# Altium schematic symbol library SG_SCH_ADC.SchLib: 10 symbols
Pins are listed as number, name and electrical type; pins without a type are passive.

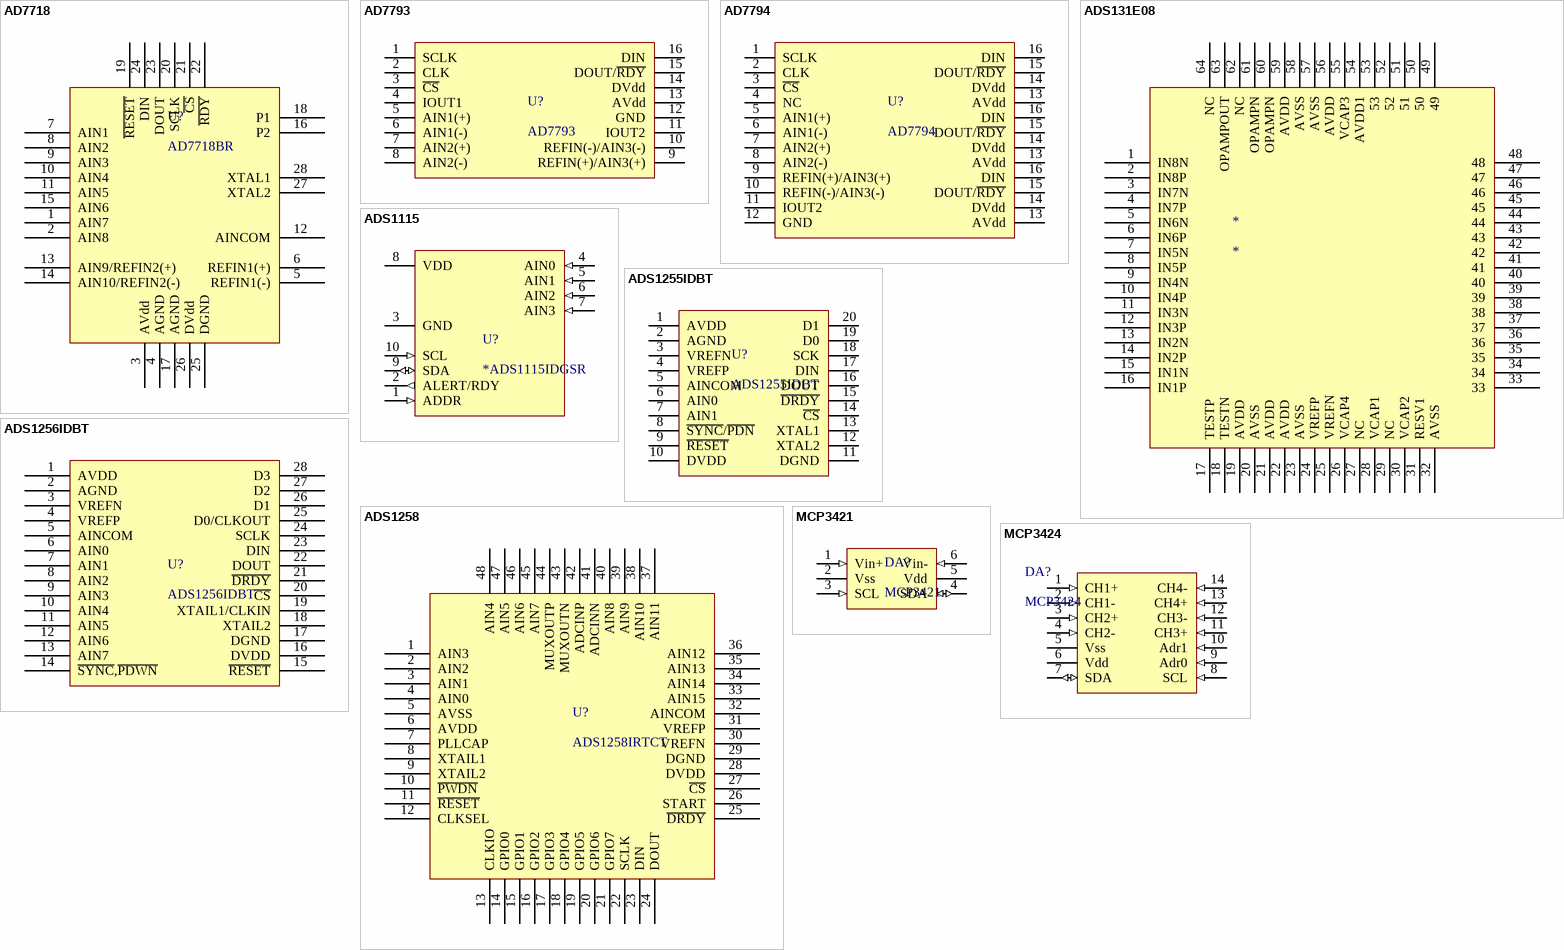
[diagram p0: symbols AD7718 to MCP3424]

## AD7718
designator U?, comment AD7718BR
10 - channel sigma-delta ADC with PGA; OriginalSource: AltTab; Order: *
footprint SO28 (Footprint not found)
pins: 1 AIN7, 2 AIN8, 3 AVdd, 4 AGND, 5 REFIN1(-), 6 REFIN1(+), 7 AIN1, 8 AIN2, 9 AIN3, 10 AIN4, 11 AIN5, 12 AINCOM, 13 AIN9/REFIN2(+), 14 AIN10/REFIN2(-), 15 AIN6, 16 P2, 17 AGND, 18 P1, 19 ~{RESET}, 20 SCLK, 21 ~{CS}, 22 ~{RDY}, 23 DOUT, 24 DIN, 25 DGND, 26 DVdd, 27 XTAL2, 28 XTAL1

## AD7793
designator U?
3-Channel, Low Noise, Low Power, 24-Bit  sigma-delta ADC with On-Chip In-Amp and Reference; OriginalSource: AltTab; Order: *
pins: 1 SCLK, 2 CLK, 3 ~{CS}, 4 IOUT1, 5 AIN1(+), 6 AIN1(-), 7 AIN2(+), 8 AIN2(-), 9 REFIN(+)/AIN3(+), 10 REFIN(-)/AIN3(-), 11 IOUT2, 12 GND, 13 AVdd, 14 DVdd, 15 DOUT/~{RDY}, 16 DIN

## AD7794
designator U?
6-Channel, Low Noise, Low Power, 24-/16-Bit sigma-delta ADC with On-Chip In-Amp and Reference; OriginalSource: AltTab; Order: *
pins: 1 SCLK, 2 CLK, 3 ~{CS}, 4 NC, 5 AIN1(+), 6 AIN1(-), 7 AIN2(+), 8 AIN2(-), 9 REFIN(+)/AIN3(+), 10 REFIN(-)/AIN3(-), 11 IOUT2, 12 GND, 13 AVdd, 13 AVdd, 13 AVdd, 14 DVdd, 14 DVdd, 14 DVdd, 15 DOUT/~{RDY}, 15 DOUT/~{RDY}, 15 DOUT/~{RDY}, 16 DIN, 16 DIN, 16 DIN

## ADS131E08
designator *
OriginalSource: AltTab; Order: *
pins: 1 IN8N, 2 IN8P, 3 IN7N, 4 IN7P, 5 IN6N, 6 IN6P, 7 IN5N, 8 IN5P, 9 IN4N, 10 IN4P, 11 IN3N, 12 IN3P, 13 IN2N, 14 IN2P, 15 IN1N, 16 IN1P, 17 TESTP, 18 TESTN, 19 AVDD, 20 AVSS, 21 AVDD, 22 AVDD, 23 AVSS, 24 VREFP, 25 VREFN, 26 VCAP4, 27 NC, 28 VCAP1, 29 NC, 30 VCAP2, 31 RESV1, 32 AVSS, 33, 34, 35, 36, 37, 38, 39, 40, 41, 42, 43, 44, 45, 46, 47, 48, 49, 50, 51, 52, 53, 54 AVDD1, 55 VCAP3, 56 AVDD, 57 AVSS, 58 AVSS, 59 AVDD, 60 OPAMPN, 61 OPAMPN, 62 NC, 63 OPAMPOUT, 64 NC

## ADS1115
designator U?, comment *ADS1115IDGSR
16-bit, 860-SPS, 4-channel, delta-sigma ADC with PGA, oscillator, VREF, comparator and I2C; Order: *ADS1115IDGSR; DefaultOrder: ADS1115IDGSR
footprint VSSOP-10 (Footprint not found)
pins: 1 ADDR (in), 2 ALERT/RDY (out), 3 GND (power), 4 AIN0 (in), 5 AIN1 (in), 6 AIN2 (in), 7 AIN3 (in), 8 VDD (power), 9 SDA (io), 10 SCL (in)

## ADS1255IDBT
designator U?
24-bit sigma-delta ADC; OriginalSource: AltTab; Order: *
pins: 1 AVDD, 2 AGND, 3 VREFN, 4 VREFP, 5 AINCOM, 6 AIN0, 7 AIN1, 8 ~{SYNC}/~{PDN}, 9 ~{RESET}, 10 DVDD, 11 DGND, 12 XTAL2, 13 XTAL1, 14 ~{CS}, 15 ~{DRDY}, 16 DOUT, 17 DIN, 18 SCK, 19 D0, 20 D1

## ADS1256IDBT
designator U?
OriginalSource: AltTab; Order: *
footprint SSOP28 (SOP, 28-Leads, Body 9,9x5,3mm (max), Pitch 0,65mm, IPC Medium Density)
pins: 1 AVDD, 2 AGND, 3 VREFN, 4 VREFP, 5 AINCOM, 6 AIN0, 7 AIN1, 8 AIN2, 9 AIN3, 10 AIN4, 11 AIN5, 12 AIN6, 13 AIN7, 14 ~{SYNC},~{PDWN}, 15 ~{RESET}, 16 DVDD, 17 DGND, 18 XTAIL2, 19 XTAIL1/CLKIN, 20 ~{CS}, 21 ~{DRDY}, 22 DOUT, 23 DIN, 24 SCLK, 25 D0/CLKOUT, 26 D1, 27 D2, 28 D3

## ADS1258
designator U?, comment ADS1258IRTCT
OriginalSource: AltTab; Order: *
footprint QFN48_N (QFN, 48-Leads, Body 7x7mm, Pitch 0.5mm, IPC Medium Density)
pins: 1 AIN3, 2 AIN2, 3 AIN1, 4 AIN0, 5 AVSS, 6 AVDD, 7 PLLCAP, 8 XTAIL1, 9 XTAIL2, 10 ~{PWDN}, 11 ~{RESET}, 12 CLKSEL, 13 CLKIO, 14 GPIO0, 15 GPIO1, 16 GPIO2, 17 GPIO3, 18 GPIO4, 19 GPIO5, 20 GPIO6, 21 GPIO7, 22 SCLK, 23 DIN, 24 DOUT, 25 ~{DRDY}, 26 START, 27 ~{CS}, 28 DVDD, 29 DGND, 30 VREFN, 31 VREFP, 32 AINCOM, 33 AIN15, 34 AIN14, 35 AIN13, 36 AIN12, 37 AIN11, 38 AIN10, 39 AIN9, 40 AIN8, 41 ADCINN, 42 ADCINP, 43 MUXOUTN, 44 MUXOUTP, 45 AIN7, 46 AIN6, 47 AIN5, 48 AIN4

## MCP3421
designator DA?
18 bit sigma-delta ADC, I2C, PGA (x1-x8),; DefaultOrder: MCP3421A0T-E/CH; OriginalSource: AltTab; Order: *
footprint SOT23-6
pins: 1 Vin+ (in), 2 Vss (power), 3 SCL (in), 4 SDA (io), 5 Vdd (power), 6 Vin- (in)

## MCP3424
designator DA?
18-Bit, Multi-Channel ΔΣ Analog-to-Digital Converter with I2C Interface and On-Board Reference; DefaultOrder: MCP3424-E/ST; OriginalSource: AltTab; Order: *
footprint TSSOP-14
footprint SO-14
pins: 1 CH1+ (in), 2 CH1- (in), 3 CH2+ (in), 4 CH2- (in), 5 Vss (power), 6 Vdd (power), 7 SDA (io), 8 SCL (in), 9 Adr0 (in), 10 Adr1 (in), 11 CH3+ (in), 12 CH3- (in), 13 CH4+ (in), 14 CH4- (in)